# Altium schematic symbol library SKY13330-397LF.Schlib: 1 symbol
Pins are listed as number, name and electrical type; pins without a type are passive.

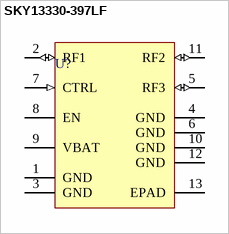
[diagram p0: symbol SKY13330-397LF]

## SKY13330-397LF
designator U?
RF Switch
pins: 1 GND (power), 2 RF1 (io), 3 GND (power), 4 GND (power), 5 RF3 (io), 6 GND (power), 7 CTRL (in), 8 EN, 9 VBAT (power), 10 GND (power), 11 RF2 (io), 12 GND (power), 13 EPAD (power)